# Altium footprint library BQ29412DCTRG4.PcbLib: 3 footprints
Each footprint in its own frame and in the unit in brackets; x right, y up, seen from the top. Pads: shape width x height; smd on the part's side, far side on the other; paste and mask are expansions set on the pad; w line width, h text height; cw(c..) or ccw(c..) is an arc to the next point about the centre after c.
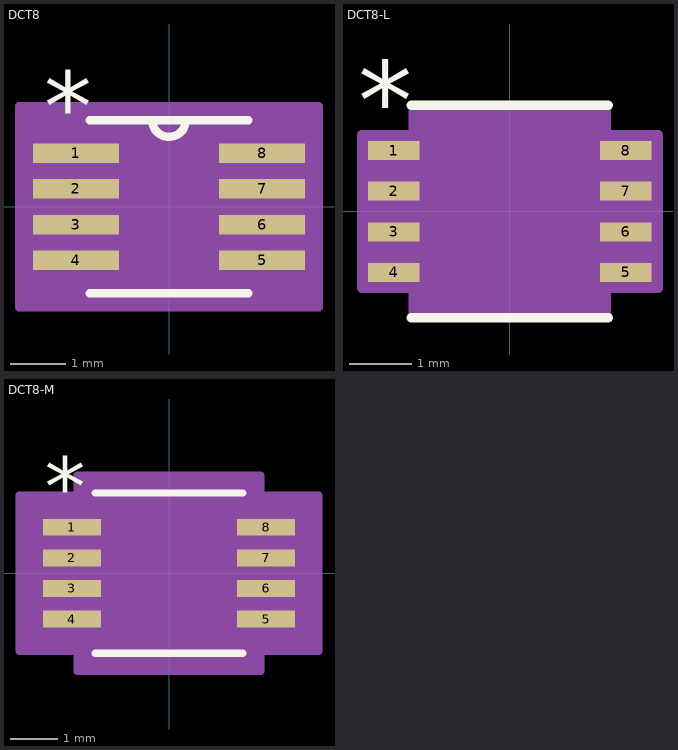
[diagram p0: the footprints below, top view; thin cyan lines are the x and y axes]

## DCT8 [mil]
pads (8):
  rect 61.5x14 smd paste-30.75 mask-31: 1(-66.75,38.39) 2(-66.75,12.8) 3(-66.75,-12.8) 4(-66.75,-38.39) 5(66.75,-38.39) 6(66.75,-12.8) 7(66.75,12.8) 8(66.75,38.39)
Top Overlay:
  lines w6: -57,-62 57,-62 ; -57,62 57,62 ; -12,62 ccw(c0,62) 12,62
  text "*" at -89.25,47.39 h50
Mechanical 13:
  lines w0: -12,62 ccw(c0,62) 12,62
  lines w1: -83.5,-44.39 -57,-44.39 -57,-32.39 -83.5,-32.39 -83.5,-44.39 ; -83.5,-18.8 -57,-18.8 -57,-6.8 -83.5,-6.8 -83.5,-18.8 ; -83.5,6.8 -57,6.8 -57,18.8 -83.5,18.8 -83.5,6.8 ; -83.5,32.39 -57,32.39 -57,44.39 -83.5,44.39 -83.5,32.39 ; -57,-62 -57,62 57,62 57,-62 -57,-62 ; 57,-44.39 83.5,-44.39 83.5,-32.39 57,-32.39 57,-44.39 ; 57,-18.8 83.5,-18.8 83.5,-6.8 57,-6.8 57,-18.8 ; 57,6.8 83.5,6.8 83.5,18.8 57,18.8 57,6.8 ; 57,32.39 83.5,32.39 83.5,44.39 57,44.39 57,32.39
  text "*" at -89.25,47.39 h50
Mechanical 15:
  region: 107.5,-72 -107.5,-72 -107.5,72 107.5,72
  lines w6: -107.5,-72 107.5,-72 107.5,72 -107.5,72 -107.5,-72
3D body "DCT8.step": height 51.1, standoff 0, extent -83.5,-62.01 83.5,62.01

## DCT8-L [mil]
pads (8):
  rect 32.5x12 smd paste+0 mask+0: 1(-73.25,38.39) 2(-73.25,12.8) 3(-73.25,-12.8) 4(-73.25,-38.39) 5(73.25,-38.39) 6(73.25,-12.8) 7(73.25,12.8) 8(73.25,38.39)
Top Overlay:
  lines w6: -62,-67 62,-67 ; -62,67 62,67
  text "*" at -95.75,45.39 h50
Mechanical 13:
  lines w0: -12,62 ccw(c0,62) 12,62
  lines w1: -83.5,-44.39 -83.5,-32.39 -57,-32.39 -57,-44.39 -83.5,-44.39 ; -83.5,-18.8 -83.5,-6.8 -57,-6.8 -57,-18.8 -83.5,-18.8 ; -83.5,6.8 -83.5,18.8 -57,18.8 -57,6.8 -83.5,6.8 ; -83.5,32.39 -83.5,44.39 -57,44.39 -57,32.39 -83.5,32.39 ; -57,-62 57,-62 57,62 -57,62 -57,-62 ; 57,-44.39 57,-32.39 83.5,-32.39 83.5,-44.39 57,-44.39 ; 57,-18.8 57,-6.8 83.5,-6.8 83.5,-18.8 57,-18.8 ; 57,6.8 57,18.8 83.5,18.8 83.5,6.8 57,6.8 ; 57,32.39 57,44.39 83.5,44.39 83.5,32.39 57,32.39
  text "*" at -54.5,9 h50
Mechanical 15:
  region: -61,-48.39 -93.5,-48.39 -93.5,48.39 -61,48.39 -61,66 61,66 61,48.39 93.5,48.39 93.5,-48.39 61,-48.39 61,-66 -61,-66
  lines w6: -93.5,-48.39 -93.5,48.39 -61,48.39 -61,66 61,66 61,48.39 93.5,48.39 93.5,-48.39 61,-48.39 61,-66 -61,-66 -61,-48.39 -93.5,-48.39
3D body "DCT8.step": height 51.1, standoff 0, extent -83.5,-62.01 83.5,62.01

## DCT8-M [mil]
pads (8):
  rect 48.5x14 smd paste+0 mask+0: 1(-81.25,38.39) 2(-81.25,12.8) 3(-81.25,-12.8) 4(-81.25,-38.39) 5(81.25,-38.39) 6(81.25,-12.8) 7(81.25,12.8) 8(81.25,38.39)
Top Overlay:
  lines w6: -62,-67 62,-67 ; -62,67 62,67
  text "*" at -103.75,47.39 h50
Mechanical 13:
  lines w0: -12,62 ccw(c0,62) 12,62
  lines w1: -83.5,-44.39 -83.5,-32.39 -57,-32.39 -57,-44.39 -83.5,-44.39 ; -83.5,-18.8 -83.5,-6.8 -57,-6.8 -57,-18.8 -83.5,-18.8 ; -83.5,6.8 -83.5,18.8 -57,18.8 -57,6.8 -83.5,6.8 ; -83.5,32.39 -83.5,44.39 -57,44.39 -57,32.39 -83.5,32.39 ; -57,-62 57,-62 57,62 -57,62 -57,-62 ; 57,-44.39 57,-32.39 83.5,-32.39 83.5,-44.39 57,-44.39 ; 57,-18.8 57,-6.8 83.5,-6.8 83.5,-18.8 57,-18.8 ; 57,6.8 57,18.8 83.5,18.8 83.5,6.8 57,6.8 ; 57,32.39 57,44.39 83.5,44.39 83.5,32.39 57,32.39
  text "*" at -54.5,9 h50
Mechanical 15:
  region: -77,-65.39 -125.5,-65.39 -125.5,65.39 -77,65.39 -77,82 77,82 77,65.39 125.5,65.39 125.5,-65.39 77,-65.39 77,-82 -77,-82
  lines w6: -125.5,-65.39 -125.5,65.39 -77,65.39 -77,82 77,82 77,65.39 125.5,65.39 125.5,-65.39 77,-65.39 77,-82 -77,-82 -77,-65.39 -125.5,-65.39
3D body "DCT8.step": height 51.1, standoff 0, extent -83.5,-62.01 83.5,62.01